# Altium integrated library Intersil DSP 8-Bit.IntLib: 10 symbols
Pins are listed as number, name and electrical type; pins without a type are passive.

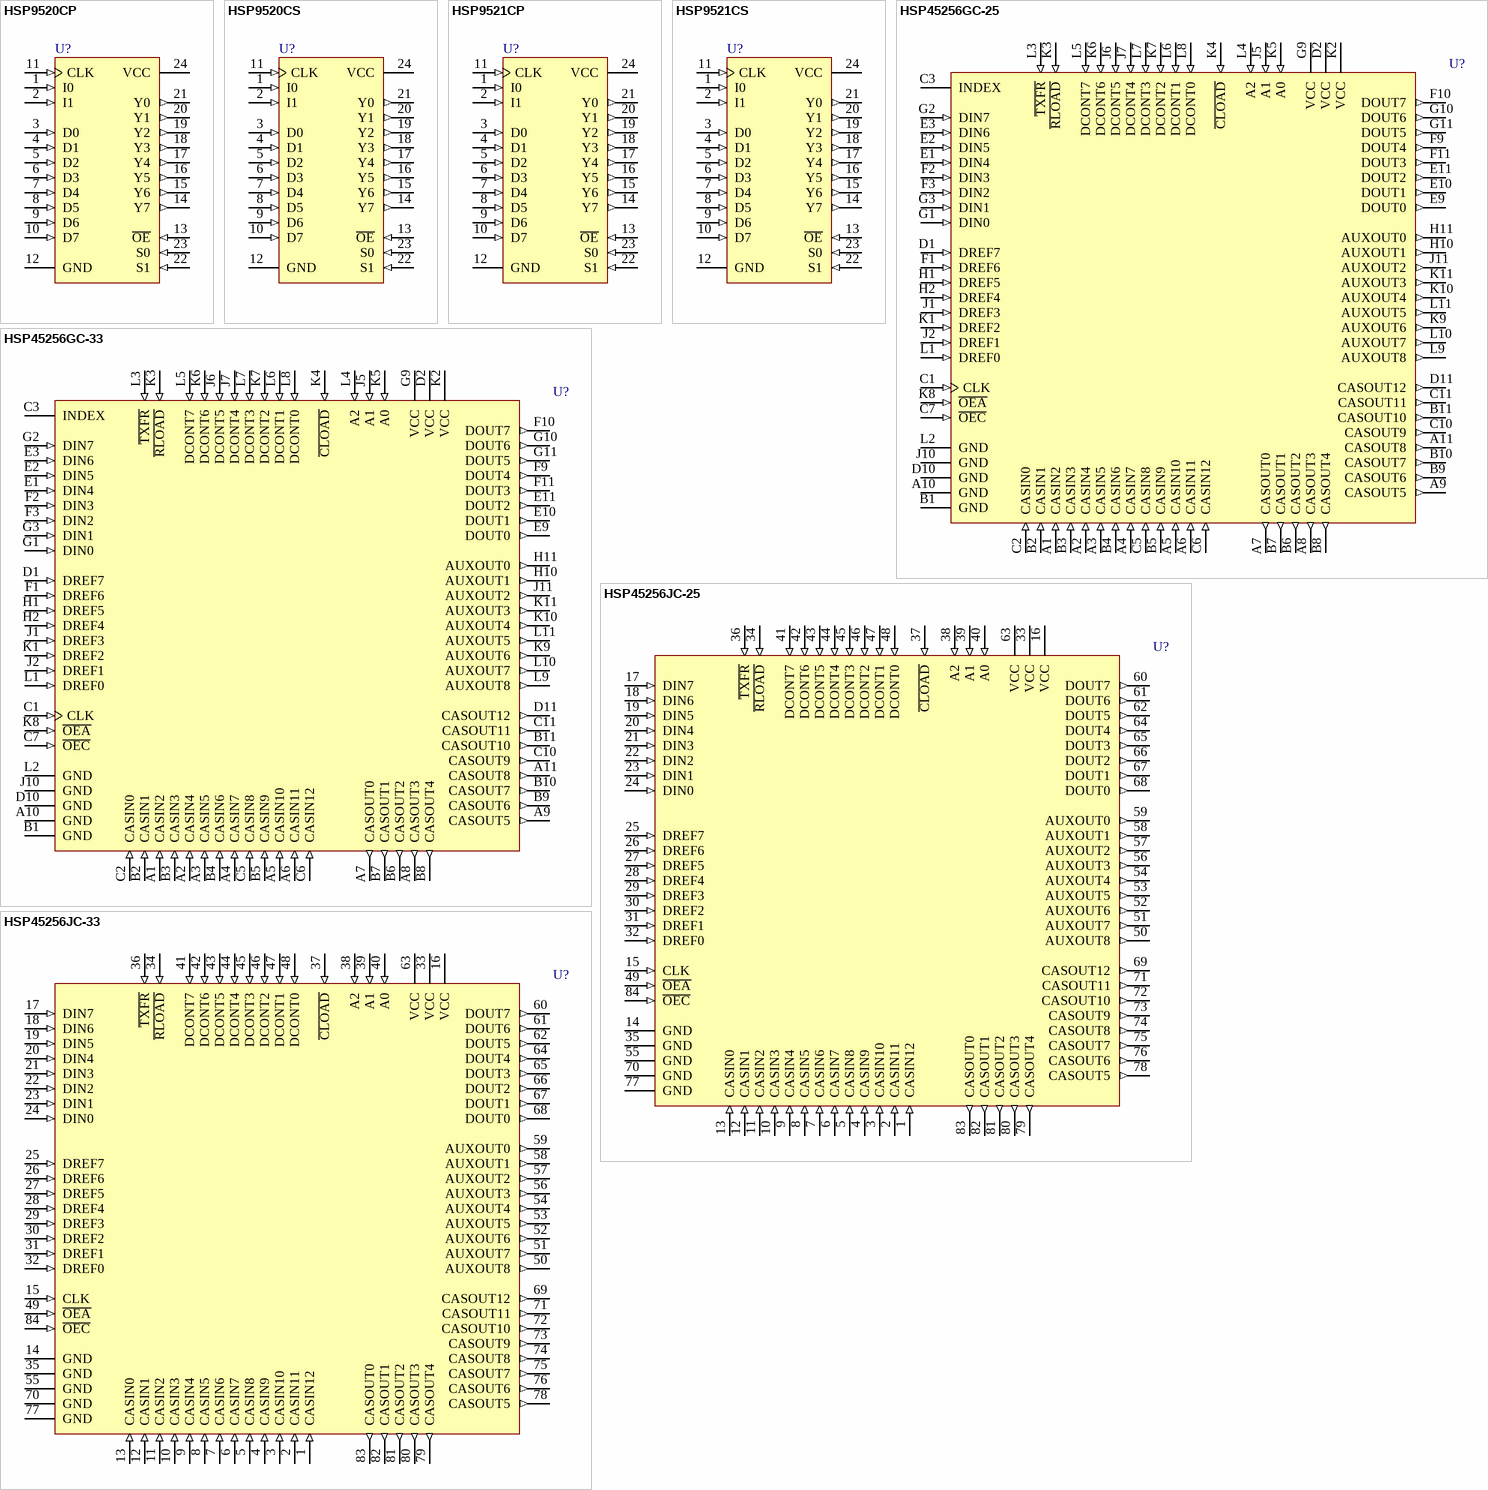
[diagram p0: symbols HSP9520CP to HSP45256JC-33]

## HSP9520CP
designator U?
Multilevel Pipeline Registers; Published: 17-Jul-2002; LatestRevisionDate: 29-May-2009; LatestRevisionNote: Component Body Added.; DatasheetVersion: May-1999; PackageVersion: Dec-1993; PackageReference: E24.3; Publisher: Altium Limited; PackageDescription: DIP, 24-Pin, Row Spacing 7.62 mm, Pitch 2.54 mm; Code_JEDEC: MS-001-AF; ComponentLink1Description: Manufacturer Link; ComponentLink1URL: http://www.intersil.com/cda/home/
footprint E24.3 (DIP, 24-Leads, Row Spacing 7.62mm, Pitch 2.54mm, Body 31.88x6.61mm)
3D model E24_3 (DIP, 24-Pin, Row Spacing 7.62 mm, Pitch 2.54 mm)
pins: 1 I0 (in), 2 I1 (in), 3 D0 (in), 4 D1 (in), 5 D2 (in), 6 D3 (in), 7 D4 (in), 8 D5 (in), 9 D6 (in), 10 D7 (in), 11 CLK (in), 12 GND (power), 13 ~{OE} (in), 14 Y7 (out), 15 Y6 (out), 16 Y5 (out), 17 Y4 (out), 18 Y3 (out), 19 Y2 (out), 20 Y1 (out), 21 Y0 (out), 22 S1 (in), 23 S0 (in), 24 VCC (power)

## HSP9520CS
designator U?
Multilevel Pipeline Registers; Published: 17-Jul-2002; LatestRevisionDate: 13-Apr-2006; LatestRevisionNote: IPC-7351 Footprint Added.; DatasheetVersion: May-1999; PackageVersion: Dec-1993; PackageReference: M24.3; Publisher: Altium Limited; PackageDescription: 24-Pin Small Outline Integrated Circuit 1.27 mm Pitch; ComponentLink1Description: Manufacturer Link; ComponentLink1URL: http://www.intersil.com/cda/home/
footprint M24.3_N (SOIC, 24-Leads, Body 15.4x7.5mm, Pitch 1.27mm, IPC Medium Density)
footprint M24.3_L (SOIC, 24-Leads, Body 15.4x7.5mm, Pitch 1.27mm, IPC High Density)
footprint M24.3_M (SOIC, 24-Leads, Body 15.4x7.5mm, Pitch 1.27mm, IPC Low Density)
3D model M24_3 (24-Pin Small Outline Integrated Circuit 1.27 mm Pitch)
pins: 1 I0 (in), 2 I1 (in), 3 D0 (in), 4 D1 (in), 5 D2 (in), 6 D3 (in), 7 D4 (in), 8 D5 (in), 9 D6 (in), 10 D7 (in), 11 CLK (in), 12 GND (power), 13 ~{OE} (in), 14 Y7 (out), 15 Y6 (out), 16 Y5 (out), 17 Y4 (out), 18 Y3 (out), 19 Y2 (out), 20 Y1 (out), 21 Y0 (out), 22 S1 (in), 23 S0 (in), 24 VCC (power)

## HSP9521CP
designator U?
Multilevel Pipeline Registers; Published: 17-Jul-2002; LatestRevisionDate: 29-May-2009; LatestRevisionNote: Component Body Added.; DatasheetVersion: May-1999; PackageVersion: Dec-1993; PackageReference: E24.3; Publisher: Altium Limited; PackageDescription: DIP, 24-Pin, Row Spacing 7.62 mm, Pitch 2.54 mm; Code_JEDEC: MS-001-AF; ComponentLink1Description: Manufacturer Link; ComponentLink1URL: http://www.intersil.com/cda/home/
footprint E24.3 (DIP, 24-Leads, Row Spacing 7.62mm, Pitch 2.54mm, Body 31.88x6.61mm)
3D model E24_3 (DIP, 24-Pin, Row Spacing 7.62 mm, Pitch 2.54 mm)
pins: 1 I0 (in), 2 I1 (in), 3 D0 (in), 4 D1 (in), 5 D2 (in), 6 D3 (in), 7 D4 (in), 8 D5 (in), 9 D6 (in), 10 D7 (in), 11 CLK (in), 12 GND (power), 13 ~{OE} (in), 14 Y7 (out), 15 Y6 (out), 16 Y5 (out), 17 Y4 (out), 18 Y3 (out), 19 Y2 (out), 20 Y1 (out), 21 Y0 (out), 22 S1 (in), 23 S0 (in), 24 VCC (power)

## HSP9521CS
designator U?
Multilevel Pipeline Registers; Published: 17-Jul-2002; LatestRevisionDate: 13-Apr-2006; LatestRevisionNote: IPC-7351 Footprint Added.; DatasheetVersion: May-1999; PackageVersion: Dec-1993; PackageReference: M24.3; Publisher: Altium Limited; PackageDescription: 24-Pin Small Outline Integrated Circuit 1.27 mm Pitch; ComponentLink1Description: Manufacturer Link; ComponentLink1URL: http://www.intersil.com/cda/home/
footprint M24.3_N (SOIC, 24-Leads, Body 15.4x7.5mm, Pitch 1.27mm, IPC Medium Density)
footprint M24.3_L (SOIC, 24-Leads, Body 15.4x7.5mm, Pitch 1.27mm, IPC High Density)
footprint M24.3_M (SOIC, 24-Leads, Body 15.4x7.5mm, Pitch 1.27mm, IPC Low Density)
3D model M24_3 (24-Pin Small Outline Integrated Circuit 1.27 mm Pitch)
pins: 1 I0 (in), 2 I1 (in), 3 D0 (in), 4 D1 (in), 5 D2 (in), 6 D3 (in), 7 D4 (in), 8 D5 (in), 9 D6 (in), 10 D7 (in), 11 CLK (in), 12 GND (power), 13 ~{OE} (in), 14 Y7 (out), 15 Y6 (out), 16 Y5 (out), 17 Y4 (out), 18 Y3 (out), 19 Y2 (out), 20 Y1 (out), 21 Y0 (out), 22 S1 (in), 23 S0 (in), 24 VCC (power)

## HSP45256GC-25
designator U?
Binary Correlator; Published: 17-Jul-2002; LatestRevisionDate: 06-Jun-2005; LatestRevisionNote: Stylized 3D Model Added.; DatasheetVersion: May-1999; PackageVersion: Jun-1995; PackageReference: G85.A; Publisher: Altium Limited; PackageDescription: 85-Pin Pin Grid Array 2.54 mm Pitch; ComponentLink1Description: Manufacturer Link; ComponentLink1URL: http://www.intersil.com/cda/home/
footprint G85.A (PGA, 85-Leads, Body 29.5x29.5mm, Pitch 2.54mm)
3D model HSP45256-G85_A (85-Pin Pin Grid Array 2.54 mm Pitch)
pins: A1 CASIN2 (in), A2 CASIN4 (in), A3 CASIN5 (in), A4 CASIN7 (in), A5 CASIN10 (in), A6 CASIN11 (in), A7 CASOUT0 (out), A8 CASOUT3 (out), A9 CASOUT5 (out), A10 GND (power), A11 CASOUT8 (out), B1 GND (power), B2 CASIN1 (in), B3 CASIN3 (in), B4 CASIN6 (in), B5 CASIN9 (in), B6 CASOUT2 (out), B7 CASOUT1 (out), B8 CASOUT4 (out), B9 CASOUT6 (out), B10 CASOUT7 (out), B11 CASOUT10 (out), C1 CLK (in), C2 CASIN0 (in), C3 INDEX, C5 CASIN8 (in), C6 CASIN12 (in), C7 ~{OEC} (in), C10 CASOUT9 (out), C11 CASOUT11 (out), D1 DREF7 (in), D2 VCC (power), D10 GND (power), D11 CASOUT12 (out), E1 DIN4 (in), E2 DIN5 (in), E3 DIN6 (in), E9 DOUT0 (out), E10 DOUT1 (out), E11 DOUT2 (out), F1 DREF6 (in), F2 DIN3 (in), F3 DIN2 (in), F9 DOUT4 (out), F10 DOUT7 (out), F11 DOUT3 (out), G1 DIN0 (in), G2 DIN7 (in), G3 DIN1 (in), G9 VCC (power), G10 DOUT6 (out), G11 DOUT5 (out), H1 DREF5 (in), H2 DREF4 (in), H10 AUXOUT1 (out), H11 AUXOUT0 (out), J1 DREF3 (in), J2 DREF1 (in), J5 A1 (in), J6 DCONT5 (in), J7 DCONT4 (in), J10 GND (power), J11 AUXOUT2 (out), K1 DREF2 (in), K2 VCC (power), K3 ~{RLOAD} (in), K4 ~{CLOAD} (in), K5 A0 (in), K6 DCONT6 (in), K7 DCONT2 (in), K8 ~{OEA} (in), K9 AUXOUT6 (out), K10 AUXOUT4 (out), K11 AUXOUT3 (out), L1 DREF0 (in), L2 GND (power), L3 ~{TXFR} (in), L4 A2 (in), L5 DCONT7 (in), L6 DCONT1 (in), L7 DCONT3 (in), L8 DCONT0 (in), L9 AUXOUT8 (out), L10 AUXOUT7 (out), L11 AUXOUT5 (out)

## HSP45256GC-33
designator U?
Binary Correlator; Published: 17-Jul-2002; LatestRevisionDate: 06-Jun-2005; LatestRevisionNote: Stylized 3D Model Added.; DatasheetVersion: May-1999; PackageVersion: Jun-1995; PackageReference: G85.A; Publisher: Altium Limited; PackageDescription: 85-Pin Pin Grid Array 2.54 mm Pitch; ComponentLink1Description: Manufacturer Link; ComponentLink1URL: http://www.intersil.com/cda/home/
footprint G85.A (PGA, 85-Leads, Body 29.5x29.5mm, Pitch 2.54mm)
3D model HSP45256-G85_A (85-Pin Pin Grid Array 2.54 mm Pitch)
pins: A1 CASIN2 (in), A2 CASIN4 (in), A3 CASIN5 (in), A4 CASIN7 (in), A5 CASIN10 (in), A6 CASIN11 (in), A7 CASOUT0 (out), A8 CASOUT3 (out), A9 CASOUT5 (out), A10 GND (power), A11 CASOUT8 (out), B1 GND (power), B2 CASIN1 (in), B3 CASIN3 (in), B4 CASIN6 (in), B5 CASIN9 (in), B6 CASOUT2 (out), B7 CASOUT1 (out), B8 CASOUT4 (out), B9 CASOUT6 (out), B10 CASOUT7 (out), B11 CASOUT10 (out), C1 CLK (in), C2 CASIN0 (in), C3 INDEX, C5 CASIN8 (in), C6 CASIN12 (in), C7 ~{OEC} (in), C10 CASOUT9 (out), C11 CASOUT11 (out), D1 DREF7 (in), D2 VCC (power), D10 GND (power), D11 CASOUT12 (out), E1 DIN4 (in), E2 DIN5 (in), E3 DIN6 (in), E9 DOUT0 (out), E10 DOUT1 (out), E11 DOUT2 (out), F1 DREF6 (in), F2 DIN3 (in), F3 DIN2 (in), F9 DOUT4 (out), F10 DOUT7 (out), F11 DOUT3 (out), G1 DIN0 (in), G2 DIN7 (in), G3 DIN1 (in), G9 VCC (power), G10 DOUT6 (out), G11 DOUT5 (out), H1 DREF5 (in), H2 DREF4 (in), H10 AUXOUT1 (out), H11 AUXOUT0 (out), J1 DREF3 (in), J2 DREF1 (in), J5 A1 (in), J6 DCONT5 (in), J7 DCONT4 (in), J10 GND (power), J11 AUXOUT2 (out), K1 DREF2 (in), K2 VCC (power), K3 ~{RLOAD} (in), K4 ~{CLOAD} (in), K5 A0 (in), K6 DCONT6 (in), K7 DCONT2 (in), K8 ~{OEA} (in), K9 AUXOUT6 (out), K10 AUXOUT4 (out), K11 AUXOUT3 (out), L1 DREF0 (in), L2 GND (power), L3 ~{TXFR} (in), L4 A2 (in), L5 DCONT7 (in), L6 DCONT1 (in), L7 DCONT3 (in), L8 DCONT0 (in), L9 AUXOUT8 (out), L10 AUXOUT7 (out), L11 AUXOUT5 (out)

## HSP45256JC-25
designator U?
Binary Correlator; Published: 17-Jul-2002; LatestRevisionDate: 13-Apr-2006; LatestRevisionNote: IPC-7351 Footprint Added.; DatasheetVersion: May-1999; PackageVersion: Nov-1997; PackageReference: N84.1.15; Publisher: Altium Limited; PackageDescription: 84-Pin Leaded Chip Carrier 1.27 mm Pitch; Code_IPC: PLCC-84; ComponentLink1Description: Manufacturer Link; ComponentLink1URL: http://www.intersil.com/cda/home/
footprint N84.1.15_N (Leaded Chip Carrier, 84-Leads, Body 29.3x29.3mm, Pitch 1.27mm, IPC Medium Density)
footprint N84.1.15_L (Leaded Chip Carrier, 84-Leads, Body 29.3x29.3mm, Pitch 1.27mm, IPC High Density)
footprint N84.1.15_M (Leaded Chip Carrier, 84-Leads, Body 29.3x29.3mm, Pitch 1.27mm, IPC Low Density)
3D model HSP45256-N84_1_15 (84-Pin Leaded Chip Carrier 1.27 mm Pitch)
pins: 1 CASIN12 (in), 2 CASIN11 (in), 3 CASIN10 (in), 4 CASIN9 (in), 5 CASIN8 (in), 6 CASIN7 (in), 7 CASIN6 (in), 8 CASIN5 (in), 9 CASIN4 (in), 10 CASIN3 (in), 11 CASIN2 (in), 12 CASIN1 (in), 13 CASIN0 (in), 14 GND (power), 15 CLK (in), 16 VCC (power), 17 DIN7 (in), 18 DIN6 (in), 19 DIN5 (in), 20 DIN4 (in), 21 DIN3 (in), 22 DIN2 (in), 23 DIN1 (in), 24 DIN0 (in), 25 DREF7 (in), 26 DREF6 (in), 27 DREF5 (in), 28 DREF4 (in), 29 DREF3 (in), 30 DREF2 (in), 31 DREF1 (in), 32 DREF0 (in), 33 VCC (power), 34 ~{RLOAD} (in), 35 GND (power), 36 ~{TXFR} (in), 37 ~{CLOAD} (in), 38 A2 (in), 39 A1 (in), 40 A0 (in), 41 DCONT7 (in), 42 DCONT6 (in), 43 DCONT5 (in), 44 DCONT4 (in), 45 DCONT3 (in), 46 DCONT2 (in), 47 DCONT1 (in), 48 DCONT0 (in), 49 ~{OEA} (in), 50 AUXOUT8 (out), 51 AUXOUT7 (out), 52 AUXOUT6 (out), 53 AUXOUT5 (out), 54 AUXOUT4 (out), 55 GND (power), 56 AUXOUT3 (out), 57 AUXOUT2 (out), 58 AUXOUT1 (out), 59 AUXOUT0 (out), 60 DOUT7 (out), 61 DOUT6 (out), 62 DOUT5 (out), 63 VCC (power), 64 DOUT4 (out), 65 DOUT3 (out), 66 DOUT2 (out), 67 DOUT1 (out), 68 DOUT0 (out), 69 CASOUT12 (out), 70 GND (power), 71 CASOUT11 (out), 72 CASOUT10 (out), 73 CASOUT9 (out), 74 CASOUT8 (out), 75 CASOUT7 (out), 76 CASOUT6 (out), 77 GND (power), 78 CASOUT5 (out), 79 CASOUT4 (out), 80 CASOUT3 (out), 81 CASOUT2 (out), 82 CASOUT1 (out), 83 CASOUT0 (out), 84 ~{OEC} (in)

## HSP45256JC-33
designator U?
Binary Correlator; Published: 17-Jul-2002; LatestRevisionDate: 13-Apr-2006; LatestRevisionNote: IPC-7351 Footprint Added.; DatasheetVersion: May-1999; PackageVersion: Nov-1997; PackageReference: N84.1.15; Publisher: Altium Limited; PackageDescription: 84-Pin Leaded Chip Carrier 1.27 mm Pitch; Code_IPC: PLCC-84; ComponentLink1Description: Manufacturer Link; ComponentLink1URL: http://www.intersil.com/cda/home/
footprint N84.1.15_N (Leaded Chip Carrier, 84-Leads, Body 29.3x29.3mm, Pitch 1.27mm, IPC Medium Density)
footprint N84.1.15_L (Leaded Chip Carrier, 84-Leads, Body 29.3x29.3mm, Pitch 1.27mm, IPC High Density)
footprint N84.1.15_M (Leaded Chip Carrier, 84-Leads, Body 29.3x29.3mm, Pitch 1.27mm, IPC Low Density)
3D model HSP45256-N84_1_15 (84-Pin Leaded Chip Carrier 1.27 mm Pitch)
pins: 1 CASIN12 (in), 2 CASIN11 (in), 3 CASIN10 (in), 4 CASIN9 (in), 5 CASIN8 (in), 6 CASIN7 (in), 7 CASIN6 (in), 8 CASIN5 (in), 9 CASIN4 (in), 10 CASIN3 (in), 11 CASIN2 (in), 12 CASIN1 (in), 13 CASIN0 (in), 14 GND (power), 15 CLK (in), 16 VCC (power), 17 DIN7 (in), 18 DIN6 (in), 19 DIN5 (in), 20 DIN4 (in), 21 DIN3 (in), 22 DIN2 (in), 23 DIN1 (in), 24 DIN0 (in), 25 DREF7 (in), 26 DREF6 (in), 27 DREF5 (in), 28 DREF4 (in), 29 DREF3 (in), 30 DREF2 (in), 31 DREF1 (in), 32 DREF0 (in), 33 VCC (power), 34 ~{RLOAD} (in), 35 GND (power), 36 ~{TXFR} (in), 37 ~{CLOAD} (in), 38 A2 (in), 39 A1 (in), 40 A0 (in), 41 DCONT7 (in), 42 DCONT6 (in), 43 DCONT5 (in), 44 DCONT4 (in), 45 DCONT3 (in), 46 DCONT2 (in), 47 DCONT1 (in), 48 DCONT0 (in), 49 ~{OEA} (in), 50 AUXOUT8 (out), 51 AUXOUT7 (out), 52 AUXOUT6 (out), 53 AUXOUT5 (out), 54 AUXOUT4 (out), 55 GND (power), 56 AUXOUT3 (out), 57 AUXOUT2 (out), 58 AUXOUT1 (out), 59 AUXOUT0 (out), 60 DOUT7 (out), 61 DOUT6 (out), 62 DOUT5 (out), 63 VCC (power), 64 DOUT4 (out), 65 DOUT3 (out), 66 DOUT2 (out), 67 DOUT1 (out), 68 DOUT0 (out), 69 CASOUT12 (out), 70 GND (power), 71 CASOUT11 (out), 72 CASOUT10 (out), 73 CASOUT9 (out), 74 CASOUT8 (out), 75 CASOUT7 (out), 76 CASOUT6 (out), 77 GND (power), 78 CASOUT5 (out), 79 CASOUT4 (out), 80 CASOUT3 (out), 81 CASOUT2 (out), 82 CASOUT1 (out), 83 CASOUT0 (out), 84 ~{OEC} (in)

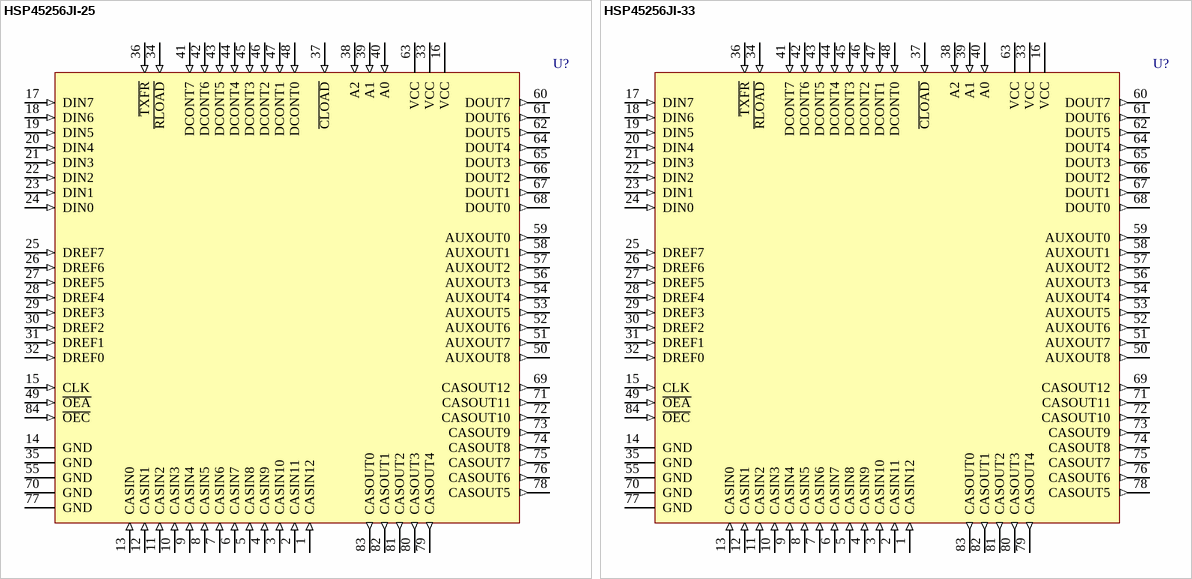
[diagram p1: symbols HSP45256JI-25 to HSP45256JI-33]

## HSP45256JI-25
designator U?
Binary Correlator; Published: 17-Jul-2002; LatestRevisionDate: 13-Apr-2006; LatestRevisionNote: IPC-7351 Footprint Added.; DatasheetVersion: May-1999; PackageVersion: Nov-1997; PackageReference: N84.1.15; Publisher: Altium Limited; PackageDescription: 84-Pin Leaded Chip Carrier 1.27 mm Pitch; Code_IPC: PLCC-84; ComponentLink1Description: Manufacturer Link; ComponentLink1URL: http://www.intersil.com/cda/home/
footprint N84.1.15_N (Leaded Chip Carrier, 84-Leads, Body 29.3x29.3mm, Pitch 1.27mm, IPC Medium Density)
footprint N84.1.15_L (Leaded Chip Carrier, 84-Leads, Body 29.3x29.3mm, Pitch 1.27mm, IPC High Density)
footprint N84.1.15_M (Leaded Chip Carrier, 84-Leads, Body 29.3x29.3mm, Pitch 1.27mm, IPC Low Density)
3D model HSP45256-N84_1_15 (84-Pin Leaded Chip Carrier 1.27 mm Pitch)
pins: 1 CASIN12 (in), 2 CASIN11 (in), 3 CASIN10 (in), 4 CASIN9 (in), 5 CASIN8 (in), 6 CASIN7 (in), 7 CASIN6 (in), 8 CASIN5 (in), 9 CASIN4 (in), 10 CASIN3 (in), 11 CASIN2 (in), 12 CASIN1 (in), 13 CASIN0 (in), 14 GND (power), 15 CLK (in), 16 VCC (power), 17 DIN7 (in), 18 DIN6 (in), 19 DIN5 (in), 20 DIN4 (in), 21 DIN3 (in), 22 DIN2 (in), 23 DIN1 (in), 24 DIN0 (in), 25 DREF7 (in), 26 DREF6 (in), 27 DREF5 (in), 28 DREF4 (in), 29 DREF3 (in), 30 DREF2 (in), 31 DREF1 (in), 32 DREF0 (in), 33 VCC (power), 34 ~{RLOAD} (in), 35 GND (power), 36 ~{TXFR} (in), 37 ~{CLOAD} (in), 38 A2 (in), 39 A1 (in), 40 A0 (in), 41 DCONT7 (in), 42 DCONT6 (in), 43 DCONT5 (in), 44 DCONT4 (in), 45 DCONT3 (in), 46 DCONT2 (in), 47 DCONT1 (in), 48 DCONT0 (in), 49 ~{OEA} (in), 50 AUXOUT8 (out), 51 AUXOUT7 (out), 52 AUXOUT6 (out), 53 AUXOUT5 (out), 54 AUXOUT4 (out), 55 GND (power), 56 AUXOUT3 (out), 57 AUXOUT2 (out), 58 AUXOUT1 (out), 59 AUXOUT0 (out), 60 DOUT7 (out), 61 DOUT6 (out), 62 DOUT5 (out), 63 VCC (power), 64 DOUT4 (out), 65 DOUT3 (out), 66 DOUT2 (out), 67 DOUT1 (out), 68 DOUT0 (out), 69 CASOUT12 (out), 70 GND (power), 71 CASOUT11 (out), 72 CASOUT10 (out), 73 CASOUT9 (out), 74 CASOUT8 (out), 75 CASOUT7 (out), 76 CASOUT6 (out), 77 GND (power), 78 CASOUT5 (out), 79 CASOUT4 (out), 80 CASOUT3 (out), 81 CASOUT2 (out), 82 CASOUT1 (out), 83 CASOUT0 (out), 84 ~{OEC} (in)

## HSP45256JI-33
designator U?
Binary Correlator; Published: 17-Jul-2002; LatestRevisionDate: 13-Apr-2006; LatestRevisionNote: IPC-7351 Footprint Added.; DatasheetVersion: May-1999; PackageVersion: Nov-1997; PackageReference: N84.1.15; Publisher: Altium Limited; PackageDescription: 84-Pin Leaded Chip Carrier 1.27 mm Pitch; Code_IPC: PLCC-84; ComponentLink1Description: Manufacturer Link; ComponentLink1URL: http://www.intersil.com/cda/home/
footprint N84.1.15_N (Leaded Chip Carrier, 84-Leads, Body 29.3x29.3mm, Pitch 1.27mm, IPC Medium Density)
footprint N84.1.15_L (Leaded Chip Carrier, 84-Leads, Body 29.3x29.3mm, Pitch 1.27mm, IPC High Density)
footprint N84.1.15_M (Leaded Chip Carrier, 84-Leads, Body 29.3x29.3mm, Pitch 1.27mm, IPC Low Density)
3D model HSP45256-N84_1_15 (84-Pin Leaded Chip Carrier 1.27 mm Pitch)
pins: 1 CASIN12 (in), 2 CASIN11 (in), 3 CASIN10 (in), 4 CASIN9 (in), 5 CASIN8 (in), 6 CASIN7 (in), 7 CASIN6 (in), 8 CASIN5 (in), 9 CASIN4 (in), 10 CASIN3 (in), 11 CASIN2 (in), 12 CASIN1 (in), 13 CASIN0 (in), 14 GND (power), 15 CLK (in), 16 VCC (power), 17 DIN7 (in), 18 DIN6 (in), 19 DIN5 (in), 20 DIN4 (in), 21 DIN3 (in), 22 DIN2 (in), 23 DIN1 (in), 24 DIN0 (in), 25 DREF7 (in), 26 DREF6 (in), 27 DREF5 (in), 28 DREF4 (in), 29 DREF3 (in), 30 DREF2 (in), 31 DREF1 (in), 32 DREF0 (in), 33 VCC (power), 34 ~{RLOAD} (in), 35 GND (power), 36 ~{TXFR} (in), 37 ~{CLOAD} (in), 38 A2 (in), 39 A1 (in), 40 A0 (in), 41 DCONT7 (in), 42 DCONT6 (in), 43 DCONT5 (in), 44 DCONT4 (in), 45 DCONT3 (in), 46 DCONT2 (in), 47 DCONT1 (in), 48 DCONT0 (in), 49 ~{OEA} (in), 50 AUXOUT8 (out), 51 AUXOUT7 (out), 52 AUXOUT6 (out), 53 AUXOUT5 (out), 54 AUXOUT4 (out), 55 GND (power), 56 AUXOUT3 (out), 57 AUXOUT2 (out), 58 AUXOUT1 (out), 59 AUXOUT0 (out), 60 DOUT7 (out), 61 DOUT6 (out), 62 DOUT5 (out), 63 VCC (power), 64 DOUT4 (out), 65 DOUT3 (out), 66 DOUT2 (out), 67 DOUT1 (out), 68 DOUT0 (out), 69 CASOUT12 (out), 70 GND (power), 71 CASOUT11 (out), 72 CASOUT10 (out), 73 CASOUT9 (out), 74 CASOUT8 (out), 75 CASOUT7 (out), 76 CASOUT6 (out), 77 GND (power), 78 CASOUT5 (out), 79 CASOUT4 (out), 80 CASOUT3 (out), 81 CASOUT2 (out), 82 CASOUT1 (out), 83 CASOUT0 (out), 84 ~{OEC} (in)